# Altium footprint library 1_to_5_Pin.PcbLib: 195 footprints (part 11 of 13)
Each footprint in its own frame and in the unit in brackets; x right, y up, seen from the top. Pads: shape width x height; smd on the part's side, far side on the other; paste and mask are expansions set on the pad; w line width, h text height; cw(c..) or ccw(c..) is an arc to the next point about the centre after c.
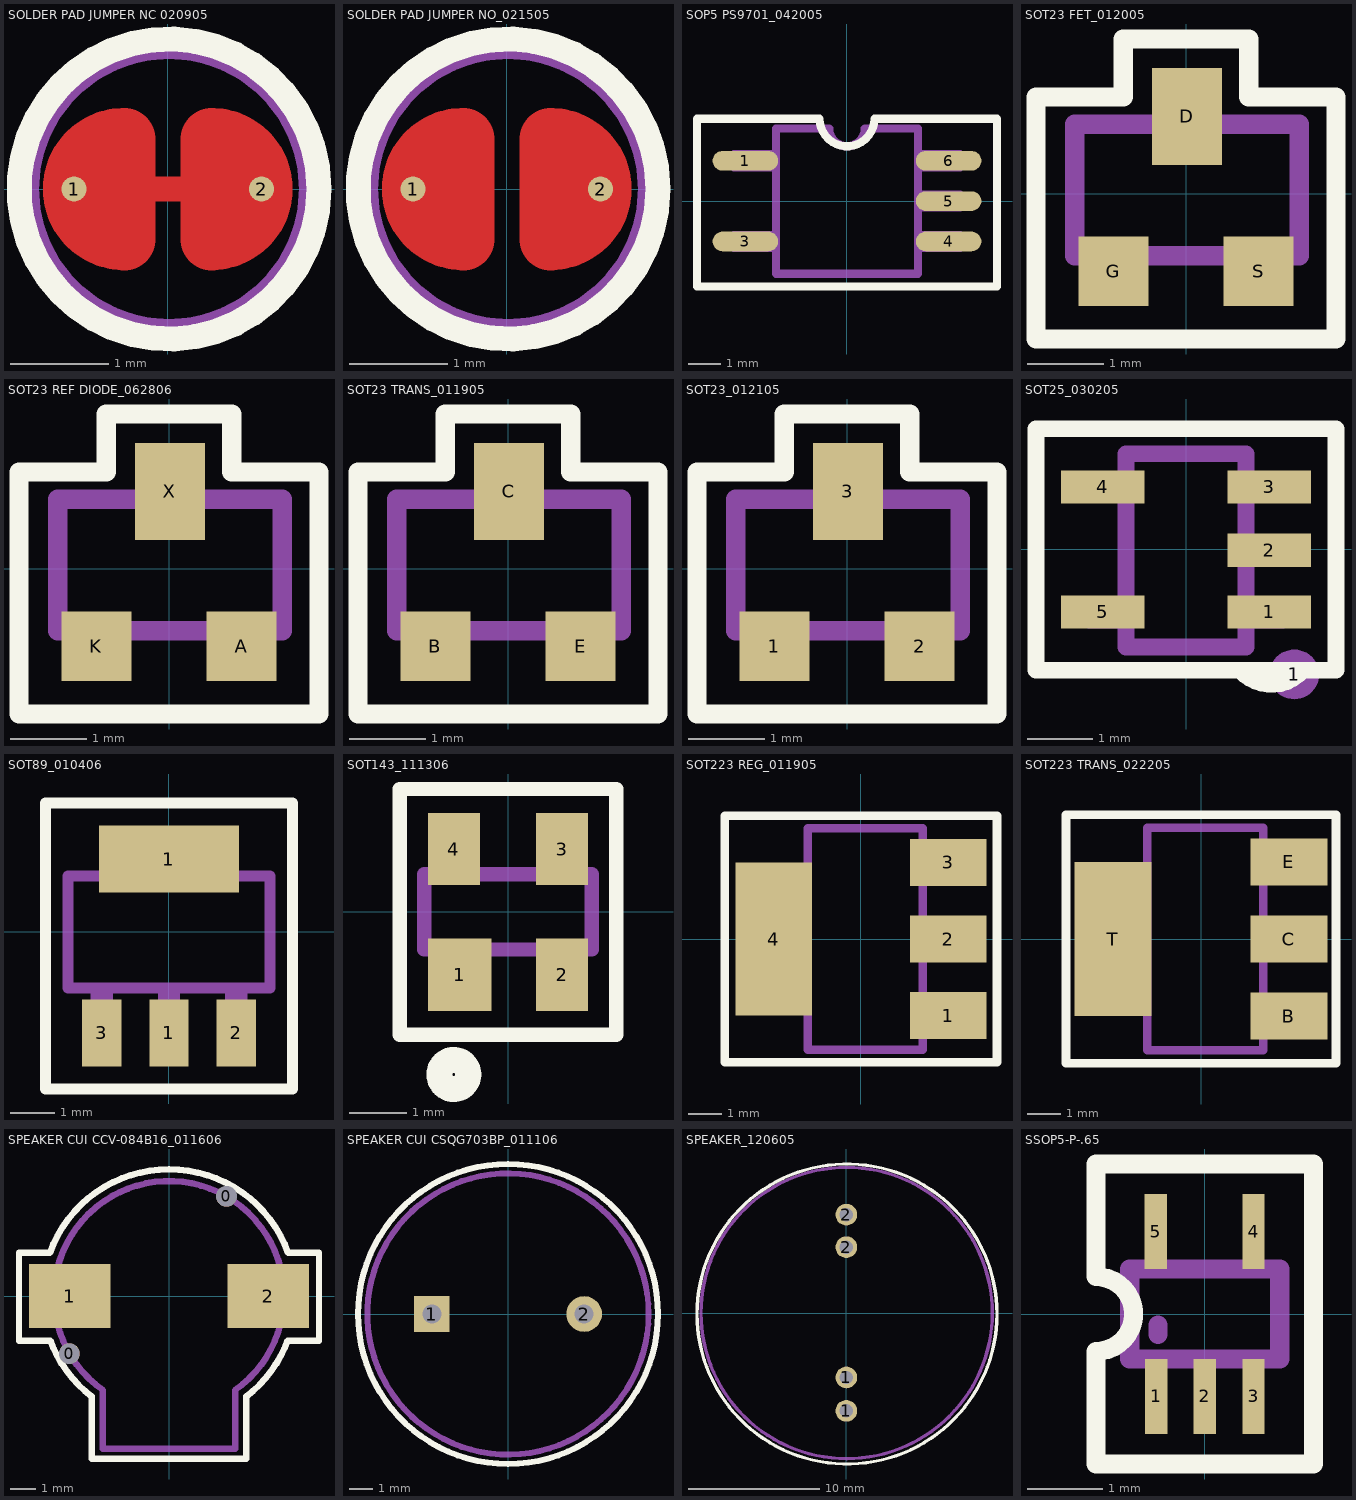
[diagram p10: the footprints below, top view; thin cyan lines are the x and y axes]

## SOLDER PAD JUMPER NC 020905 [mil] "FEATURE SMT PCB"
pads (2):
  round 10 smd: 1(-37.5,0) 2(37.5,0)
Top Layer:
  lines w10: -17.5,0 17.5,0
  lines w25: -17.5,19 -17.5,-20 cw(c-17.5,0) -17.5,20 ; 17.5,19 17.5,-20 ccw(c17.5,0) 17.5,20
Top Overlay:
  circle w10: c0.5,0 r60
Top Solder:
  circle w50: c0,0 r25
Assembly Outline:
  circle w10: c0.5,0 r57
Assembly Designator:
  text ".Designator" at -50,75 h40
Assembly Comment:
  text ".Comment" at -80,-110 h40

## SOLDER PAD JUMPER NO_021505 [mil] "FEATURE SMT PCB"
pads (2):
  round 10 smd: 1(-37.5,0) 2(37.5,0)
Top Layer:
  lines w25: -17.5,19 -17.5,-20 cw(c-17.5,0) -17.5,20 ; 17.5,19 17.5,-20 ccw(c17.5,0) 17.5,20
Top Overlay:
  circle w10: c0.5,0 r60
Top Solder:
  circle w50: c0,0 r25
Assembly Outline:
  circle w10: c0.5,0 r57
Assembly Designator:
  text ".Designator" at -45,-15 h40
Assembly Comment:
  text ".Comment" at -65,-105 h40

## SOP5 PS9701_042005 [mil] "SMT"
height 60
pads (5):
  oval 80x24 smd: 1(-124.02,49.21) 3(-124.02,-49.21) 4(124.02,-49.21) 5(124.02,0) 6(124.02,49.21)
Top Overlay:
  lines w10: -183.07,-104.33 -183.07,100.39 -33.46,100.39 ccw(c0,100.39) 33.46,100.39 183.07,100.39 183.07,-104.33 -183.07,-104.33
Assembly Outline:
  lines w10: -86.61,-57.09 -137.8,-57.09 -137.8,-49.21 -137.8,-41.34 -86.61,-41.34 ; -86.61,41.34 -137.8,41.34 -137.8,49.21 -137.8,57.09 -86.61,57.09 ; 86.61,-57.09 137.8,-57.09 137.8,-49.21 137.8,-41.34 86.61,-41.34 ; 86.61,-7.87 137.8,-7.87 137.8,0 137.8,7.87 86.61,7.87 ; 86.61,41.34 137.8,41.34 137.8,49.21 137.8,57.09 86.61,57.09 ; -86.61,-88.58 -86.61,88.58 -21.65,88.58 ccw(c0,88.58) 21.65,88.58 86.61,88.58 86.61,-88.58 -86.61,-88.58
Assembly Designator:
  text ".Designator" at -50,-25 h40
Assembly Comment:
  text ".Comment" at -55,-160 h40

## SOT23 FET_012005 [mil] "SMT"
height 50
pads (3):
  rect 36x50 smd: D(0.5,40)
  rect 36x36 smd: G(-37.5,-40) S(37.5,-40)
Top Overlay:
  lines w10: -77.5,-75 77.5,-75 77.5,50 32.5,50 32.5,80 -14.5,80 -32.5,80 -32.5,50 -77.5,50 -77.5,-75
Assembly Outline:
  lines w10: -47.5,-32 -47.5,-48 -27.5,-48 -27.5,-32 ; -7.5,36 -7.5,54 8.5,54 8.5,36 ; 28.5,-32 28.5,-48 46.5,-48 46.5,-32 ; -57.5,-32 58.5,-32 58.5,36 -57.5,36 -57.5,-32
Assembly Designator:
  text ".Designator" at -31.5,-15.75 h40
Assembly Comment:
  text ".Comment" at -59.06,-125.98 h40

## SOT23 REF DIODE_062806 [mil] "SMT"
height 50
pads (3):
  rect 36x36 smd: A(37.5,-40) K(-37.5,-40)
  rect 36x50 smd: X(0.5,40)
Top Overlay:
  lines w10: -77.5,-75 77.5,-75 77.5,50 32.5,50 32.5,80 -14.5,80 -32.5,80 -32.5,50 -77.5,50 -77.5,-75
Assembly Outline:
  lines w10: -47.5,-32 -47.5,-48 -27.5,-48 -27.5,-32 ; -7.5,36 -7.5,54 8.5,54 8.5,36 ; 28.5,-32 28.5,-48 46.5,-48 46.5,-32 ; -57.5,-32 58.5,-32 58.5,36 -57.5,36 -57.5,-32
Assembly Designator:
  text ".Designator" at -31.5,-15.75 h40
Assembly Comment:
  text ".Comment" at -59.06,-125.98 h40

## SOT23 TRANS_011905 [mil] "SMT"
height 40
pads (3):
  rect 36x36 smd: B(-37.5,-40) E(37.5,-40)
  rect 36x50 smd: C(0.5,40)
Top Overlay:
  lines w10: -77.5,-75 -77.5,50 -32.5,50 -32.5,80 -14.5,80 32.5,80 32.5,50 77.5,50 77.5,-75 -77.5,-75
Assembly Outline:
  lines w10: -47.5,-32 -47.5,-48 -27.5,-48 -27.5,-32 ; -7.5,36 -7.5,54 8.5,54 8.5,36 ; 28.5,-32 28.5,-48 46.5,-48 46.5,-32 ; -57.5,-32 -57.5,36 58.5,36 58.5,-32 -57.5,-32
Assembly Designator:
  text ".Designator" at -45,-15 h40
Assembly Comment:
  text ".Comment" at -70,50 h40

## SOT23_012105 [mil] "SMT"
height 50
pads (3):
  rect 36x36 smd: 1(-37.5,-40) 2(37.5,-40)
  rect 36x50 smd: 3(0.5,40)
Top Overlay:
  lines w10: -77.5,-75 -77.5,50 -32.5,50 -32.5,80 -14.5,80 32.5,80 32.5,50 77.5,50 77.5,-75 -77.5,-75
Assembly Outline:
  lines w10: -47.5,-32 -47.5,-48 -27.5,-48 -27.5,-32 ; -7.5,36 -7.5,54 8.5,54 8.5,36 ; 28.5,-32 28.5,-48 46.5,-48 46.5,-32 ; -57.5,-32 -57.5,36 58.5,36 58.5,-32 -57.5,-32
Assembly Designator:
  text ".Designator" at -57.5,70 h40
Assembly Comment:
  text ".Comment" at -82.5,-105 h40

## SOT25_030205 [mil] "SMT"
height 40
pads (6):
  rect 50x20 smd: 1(50,-37.5) 2(50,-0.5) 3(50,37.5) 4(-50,37.5) 5(-50,-37.5)
  round 30 on Mech1 paste+0 mask+0: 1(65,-75)
Top Overlay:
  lines w10: 35,-75 ccw(c51.25,-56.25) 70,-72.5 ; -90,-72.5 -90,72.5 90,72.5 90,37.5 90,-72.5 -90,-72.5
Assembly Outline:
  lines w10: -36,-42.5 -58,-42.5 -58,-34.5 -36,-34.5 ; -36,33.5 -58,33.5 -58,41.5 -36,41.5 ; 36,-42.5 58,-42.5 58,-34.5 36,-34.5 ; 36,-4.5 58,-4.5 58,3.5 36,3.5 ; 36,31.5 38,33.5 58,33.5 58,41.5 36,41.5 ; -36,-58.5 -36,57.5 36,57.5 36,-58.5 -36,-58.5
Assembly Designator:
  text ".Designator" at -20,45 h40
Assembly Comment:
  text ".Comment" at 90,65 h40

## SOT89_010406 [mil] "SMT"
height 50
pads (4):
  rect 35x60 smd: 1(0,-90) 2(60,-90) 3(-60,-90)
  rect 125x60 smd: 1(0,65)
Top Overlay:
  lines w10: -110,-140 -110,0 -110,115 0,115 110,115 110,0 110,-140 0,-140 -110,-140
Assembly Outline:
  lines w10: -65,-50 -65,-100 -55,-100 -55,-50 ; -60,-50 0,-50 ; -30,50 -30,65 -20,75 20,75 30,65 30,50 ; -5,-50 -5,-100 5,-100 5,-50 ; 0,-100 0,-50 ; 0,50 -90,50 ; 55,-50 55,-100 65,-100 65,-50 ; 60,-50 0,-50 ; -90,50 90,50 90,-50 -90,-50 -90,50
Assembly Designator:
  text ".Designator" at -45,-25 h40
Assembly Comment:
  text ".Comment" at -155,-190 h40

## SOT143_111306 [mil] "SMT"
height 48
pads (4):
  rect 44x50 smd: 1(-33.5,-43.5)
  rect 36x50 smd: 2(37.5,-43.5) 3(37.5,43.5) 4(-37.5,43.5)
Top Overlay:
  circle w18: c-37.5,-112.5 r10
  lines w10: -75,-85 -75,85 75,85 75,-85 -75,-85
Assembly Outline:
  lines w10: -45,-26 -45,-55 -22.5,-55 -22.5,-26 ; -42.5,26 -42.5,55 -30,55 -30,26 ; 32.5,-26 32.5,-55 45,-55 45,-26 ; 32.5,26 32.5,55 45,55 45,26 ; -58,-26 -58,26 58,26 58,-26 -58,-26
Assembly Designator:
  text ".Designator" at -80,-95 h40
Assembly Comment:
  text ".Comment" at -97.5,-117.5 h40

## SOT223 REG_011905 [mil] "SMT"
height 65
pads (4):
  rect 90x55 smd: 1(102.5,-90) 2(102.5,0) 3(102.5,90)
  rect 90x180 smd: 4(-102.5,0)
Top Overlay:
  lines w10: -160,-145 160,-145 160,145 -160,145 -160,-145
Assembly Outline:
  lines w10: 72.5,-105 127.5,-105 127.5,-90 127.5,-75 72.5,-75 ; 72.5,-15 127.5,-15 127.5,0 127.5,15 72.5,15 ; 72.5,75 127.5,75 127.5,90 127.5,105 72.5,105 ; -62.5,-55 -62.5,-130 72.5,-130 72.5,130 -62.5,130 -62.5,55 ; -62.5,-55 -62.5,55 ; -62.5,-55 -127.5,-55 -127.5,55 -62.5,55
Assembly Designator:
  text ".Designator" at -50,-20 h40
Assembly Comment:
  text ".Comment" at -140,-195 h40

## SOT223 TRANS_022205 [mil] "SMT"
height 120
pads (4):
  rect 90x55 smd: B(102.5,-90) C(102.5,0) E(102.5,90)
  rect 90x180 smd: T(-102.5,0)
Top Overlay:
  lines w10: -157.5,-145 157.5,-145 157.5,145 -157.5,145 -157.5,-5 -157.5,-145
Assembly Outline:
  lines w10: 72.5,-105 127.5,-105 127.5,-90 127.5,-75 72.5,-75 ; 72.5,-15 127.5,-15 127.5,0 127.5,15 72.5,15 ; 72.5,75 127.5,75 127.5,90 127.5,105 72.5,105 ; -62.5,-55 -127.5,-55 -127.5,55 -62.5,55 ; -62.5,-55 -62.5,55 ; -62.5,-55 -62.5,-130 72.5,-130 72.5,130 -62.5,130 -62.5,55
Assembly Designator:
  text ".Designator" at -70,-30 h60
Assembly Comment:
  text ".Comment" at -155,-205 h60

## SPEAKER CUI CCV-084B16_011606 [mm] "SMT"
height 2.5
pads (4):
  round 0.813 hole 0.813: 0(-3.917,-2.265) 0(2.26,3.92)
  rect 3.2x2.5 smd: 1(-3.9,0) 2(3.9,0)
Top Overlay:
  lines w0.254: -5.9,-1.751 -5.9,1.696 -4.689,1.696 cw(c0,0) 0,4.986 cw(c0,0) 4.689,1.696 5.9,1.696 5.9,-1.751 4.669,-1.751 cw(c0,0) 3.047,-3.947 3.047,-6.4 0,-6.4 -3.047,-6.4 -3.047,-3.947 cw(c0,0) -4.669,-1.751 -5.9,-1.751
Assembly Outline:
  lines w0.254: -4.5,-0.75 -4.9,-0.75 ; -4.5,0.75 -4.9,0.75 ; 0,-6 -2.6,-6 ; 4.459,-0.752 cw(c0,0) 2.6,-3.7 2.6,-6 -2.6,-6 ; 4.461,-0.743 ccw(c0,0) -4.459,-0.752 ccw(c0,0) -2.6,-3.7 -2.6,-6 ; 4.5,-0.75 4.9,-0.75 ; 4.5,0.75 4.9,0.75 ; -4.9,-0.75 -4.9,0.75 ; -4.9,-0.75 -4.9,0 ; -4.9,-0.75 -4.9,0 ; -4.9,0 -4.9,0.75 ; 4.9,-0.75 4.9,0.75 ; 4.9,-0.75 4.9,0 ; 4.9,-0.75 4.9,0 ; 4.9,0 4.9,0.75
Assembly Designator:
  text ".Designator" at -0.9,-1.5 h1.02
Assembly Comment:
  text ".Comment" at -3.2,-7.8 h1.02

## SPEAKER CUI CSQG703BP_011106 [mil] "TH"
height 149.61
pads (2):
  rect 60x60 hole 32: 1(-127.95,0)
  round 60 hole 32: 2(127.95,0)
Top Overlay:
  circle w10: c0,0 r251.97
Assembly Outline:
  circle w10: c0,0 r236.22
Assembly Designator:
  text ".Designator" at -35.43,-11.81 h40
Assembly Comment:
  text ".Comment" at -102.36,-307.09 h40

## SPEAKER_120605 [mil] "TH"
height 315
pads (4):
  round 65 hole 40: 1(0,-292.5) 1(0,-192.5) 2(0,197.5) 2(0,295)
Top Overlay:
  circle w10: c2,-2.5 r449
Assembly Outline:
  circle w10: c1,0.5 r436
Assembly Designator:
  text ".Designator" at -42.32,-15.75 h40
Assembly Comment:
  text ".Comment" at -136.81,-73.82 h40

## SSOP5-P-.65 [mm] "SMT"
height 1
pads (5):
  rect 0.3x1 smd mask+0.051: 1(-0.65,-1.1) 2(0,-1.1) 3(0.65,-1.1) 4(0.65,1.1) 5(-0.65,1.1)
Top Overlay:
  lines w0.254: -1.45,-2 -1.45,-0.5 ccw(c-1.45,0) -1.45,0.5 -1.45,2 0.375,2 1.45,2 1.45,0 1.45,-2 -0.375,-2 -1.45,-2
Assembly Outline:
  lines w0.254: -1,0 -1,0.6 ; -0.65,-1.1 -0.65,-0.6 ; -0.65,0.6 -0.65,1.1 ; -0.625,-0.275 -0.625,-0.15 ; 0,-1.1 0,-0.6 ; 0,0.6 -1,0.6 ; 0.65,-1.1 0.65,-0.6 ; 0.65,0.6 0.65,1.1 ; -1,-0.6 1,-0.6 ; -1,-0.6 -1,0.6 ; -1,-0.6 1,-0.6 ; -1,0.6 1,0.6 1,-0.6
Assembly Designator:
  text ".Designator" at 1.8,-0.475 h1.02
Assembly Comment:
  text ".Comment" at -1.825,-3.5 h1.02